# Altium footprint library SOP250P700X290-4N.PcbLib: 1 footprints
Each footprint in its own frame and in the unit in brackets; x right, y up, seen from the top. Pads: shape width x height; smd on the part's side, far side on the other; paste and mask are expansions set on the pad; w line width, h text height; cw(c..) or ccw(c..) is an arc to the next point about the centre after c.
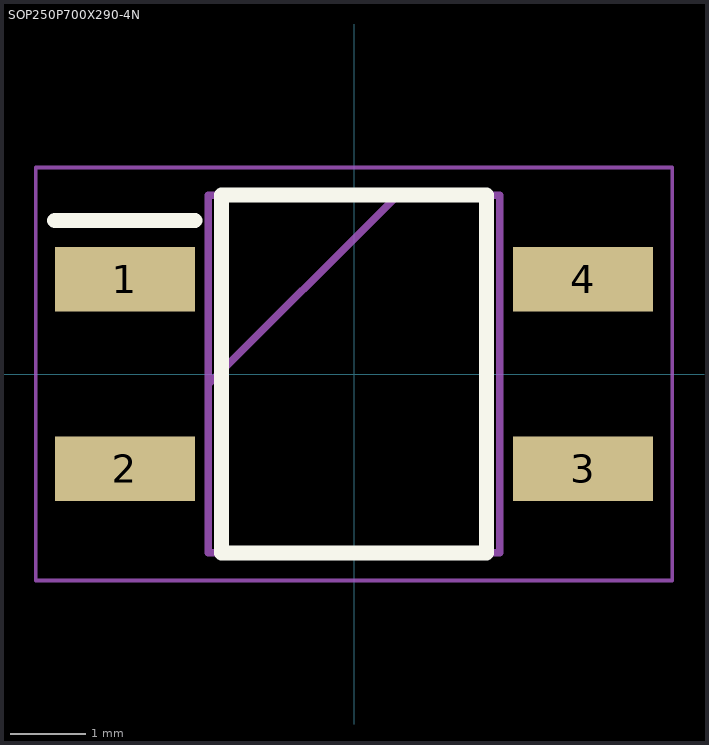
[diagram p0: the footprint, top view; thin cyan lines are the x and y axes]

## SOP250P700X290-4N [mm]
pads (4):
  rect 1.85x0.85 smd: 1(-3.025,1.25) 2(-3.025,-1.25) 3(3.025,-1.25) 4(3.025,1.25)
Top Overlay:
  lines w0.2: -3.95,2.025 -2.1,2.025 ; -1.75,-2.362 1.75,-2.362 1.75,2.362 -1.75,2.362 -1.75,-2.362
Mechanical 15:
  lines w0.1: -1.925,-0.138 0.575,2.362 ; -1.925,-2.362 1.925,-2.362 1.925,2.362 -1.925,2.362 -1.925,-2.362
Mechanical 20:
  lines w0.05: -4.2,-2.725 4.2,-2.725 4.2,2.725 -4.2,2.725 -4.2,-2.725